# Altium footprint library 513382474.PcbLib: 1 footprints
Each footprint in its own frame and in the unit in brackets; x right, y up, seen from the top. Pads: shape width x height; smd on the part's side, far side on the other; paste and mask are expansions set on the pad; w line width, h text height; cw(c..) or ccw(c..) is an arc to the next point about the centre after c.
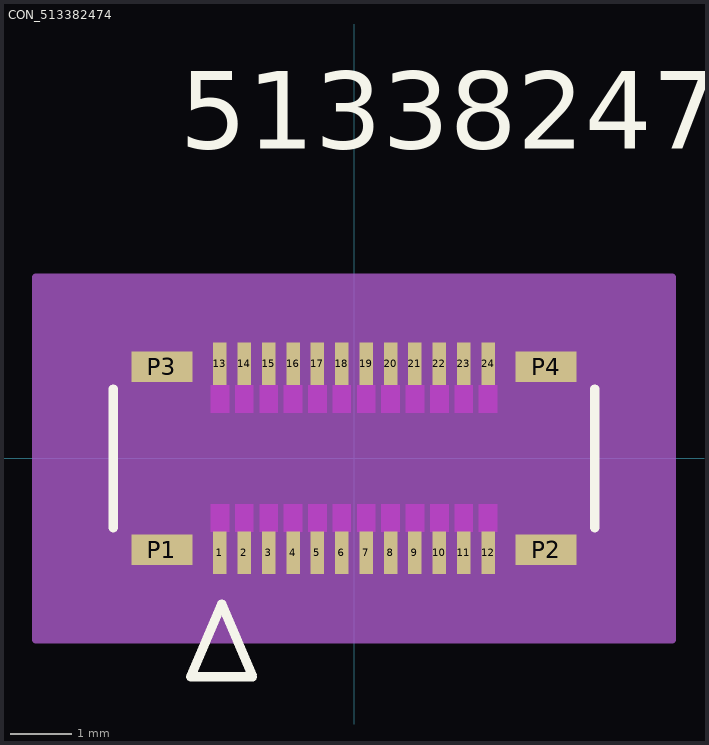
[diagram p0: the footprint, top view; thin cyan lines are the x and y axes]

## CON_513382474 [mm]
pads (28):
  rect 0.22x0.7 smd paste+0 mask+0.025: 1(-2.2,-1.55) 2(-1.8,-1.55) 3(-1.4,-1.55) 4(-1,-1.55) 5(-0.6,-1.55) 6(-0.2,-1.55) 7(0.2,-1.55) 8(0.6,-1.55) 9(1,-1.55) 10(1.4,-1.55) 11(1.8,-1.55) 12(2.2,-1.55) 13(-2.2,1.55) 14(-1.8,1.55) 15(-1.4,1.55) 16(-1,1.55) 17(-0.6,1.55) 18(-0.2,1.55) 19(0.2,1.55) 20(0.6,1.55) 21(1,1.55) 22(1.4,1.55) 23(1.8,1.55) 24(2.2,1.55)
  rect 1x0.5 smd paste+0 mask+0.025: P1(-3.15,-1.5) P2(3.15,-1.5) P3(-3.15,1.5) P4(3.15,1.5)
Top Overlay:
  lines w0.152: -3.95,-1.139 -3.95,1.139 ; 3.95,-1.139 3.95,1.139 ; -2.68,-3.582 -2.172,-2.388 -1.664,-3.582 -2.68,-3.582
  text "513382474" at -2.857,5.08 h1.27
Keep-Out Layer:
  region: 1.25,-1.2 1.25,-0.75 1.55,-0.75 1.55,-1.2
  region: 0.85,-1.2 0.85,-0.75 1.15,-0.75 1.15,-1.2
  region: 0.45,-1.2 0.45,-0.75 0.75,-0.75 0.75,-1.2
  region: 0.05,-1.2 0.05,-0.75 0.35,-0.75 0.35,-1.2
  region: -0.35,-1.2 -0.35,-0.75 -0.05,-0.75 -0.05,-1.2
  region: -0.75,-1.2 -0.75,-0.75 -0.45,-0.75 -0.45,-1.2
  region: -1.15,-1.2 -1.15,-0.75 -0.85,-0.75 -0.85,-1.2
  region: -1.55,-1.2 -1.55,-0.75 -1.25,-0.75 -1.25,-1.2
  region: -1.95,-1.2 -1.95,-0.75 -1.65,-0.75 -1.65,-1.2
  region: -2.35,-1.2 -2.35,-0.75 -2.05,-0.75 -2.05,-1.2
  region: 2.051,-1.2 2.051,-0.75 2.351,-0.75 2.351,-1.2
  region: 1.65,0.75 1.65,1.2 1.95,1.2 1.95,0.75
  region: 1.25,0.75 1.25,1.2 1.55,1.2 1.55,0.75
  region: 0.85,0.75 0.85,1.2 1.15,1.2 1.15,0.75
  region: 0.45,0.75 0.45,1.2 0.75,1.2 0.75,0.75
  region: 0.05,0.75 0.05,1.2 0.35,1.2 0.35,0.75
  region: -0.35,0.75 -0.35,1.2 -0.05,1.2 -0.05,0.75
  region: -0.75,0.75 -0.75,1.2 -0.45,1.2 -0.45,0.75
  region: -1.15,0.75 -1.15,1.2 -0.85,1.2 -0.85,0.75
  region: -1.55,0.75 -1.55,1.2 -1.25,1.2 -1.25,0.75
  region: -1.95,0.75 -1.95,1.2 -1.65,1.2 -1.65,0.75
  region: -2.35,0.75 -2.35,1.2 -2.05,1.2 -2.05,0.75
  region: 2.051,0.75 2.051,1.2 2.351,1.2 2.351,0.75
  region: 1.65,-1.2 1.65,-0.75 1.95,-0.75 1.95,-1.2
Mechanical 13:
  lines w0.127: -3.95,-1.7 -3.95,1.7 3.95,1.7 3.95,-1.7 -3.95,-1.7 ; -2.68,-3.582 -2.172,-2.388 -1.664,-3.582 -2.68,-3.582
  text "513382474" at -2.857,5.08 h1.27
Mechanical 15:
  region: 5.22,2.97 -5.22,2.97 -5.22,-2.97 5.22,-2.97
  lines w0.127: -5.22,-2.97 5.22,-2.97 5.22,2.97 -5.22,2.97 -5.22,-2.97
3D body "513382474.stp": height 1.28, standoff -0.12, extent -3.95,-1.7 3.95,1.7